# EAGLE library part EHF2BD2450 (library ime)
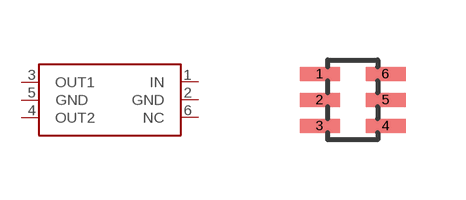
[diagram p1: symbol with the pads of BALUN; footprint BALUN]

Designator prefix -

## EHF2BD2450  [BALUN]
1  IN
2  GND  sup
3  OUT1
4  OUT2
5  GND  sup
6  NC  nc

## Footprint BALUN (pad centres in mm)
smd 1 x 0.35: 1 -0.825,0.65; 2 -0.825,0; 3 -0.825,-0.65; 4 0.825,-0.65; 5 0.825,0; 6 0.825,0.65